# EAGLE library part DREIPHASEN-TRANSFORMATOR (library e-spulen-transformatoren)
Dreiphasen-Transformator
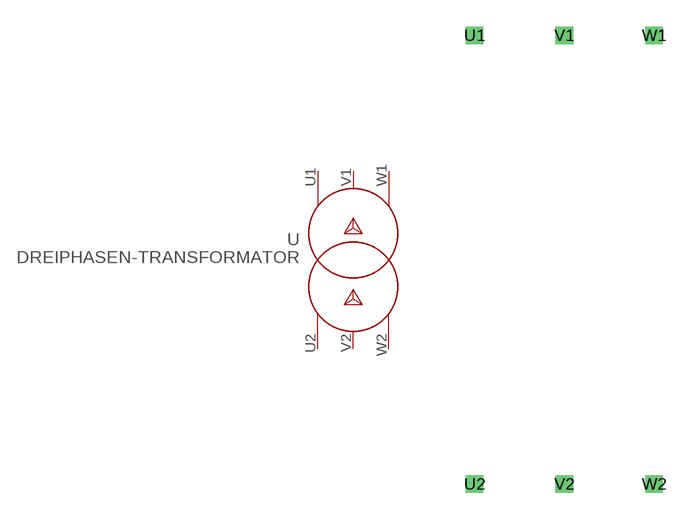
[diagram p0: symbol with the pads of DREIPHASEN-TRANSFORMATOR; footprint DREIPHASEN-TRANSFORMATOR]

Designator prefix -; gates G$1=DREIPHASEN-TRANSFORMATOR G$2=DREIECK_SYMBOL G$3=STERN_SYMBOL G$4=DREIECK_SYMBOL G$5=STERN_SYMBOL

## DREIPHASEN-TRANSFORMATOR  [DREIPHASEN-TRANSFORMATOR]
U1  G$1:U1  pas
U2  G$1:U2  pas
V1  G$1:V1  pas
V2  G$1:V2  pas
W1  G$1:W1  pas
W2  G$1:W2  pas

## Footprint DREIPHASEN-TRANSFORMATOR (pad centres in mm)
Dummy
drill 0.5 pad 1 square: U1 -5.08,2.54; U2 -5.08,-22.86; V1 0,2.54; V2 0,-22.86; W1 5.08,2.54; W2 5.08,-22.86